# EAGLE library part LM833D (library ST Microelectronics)
Dual operational amplifier
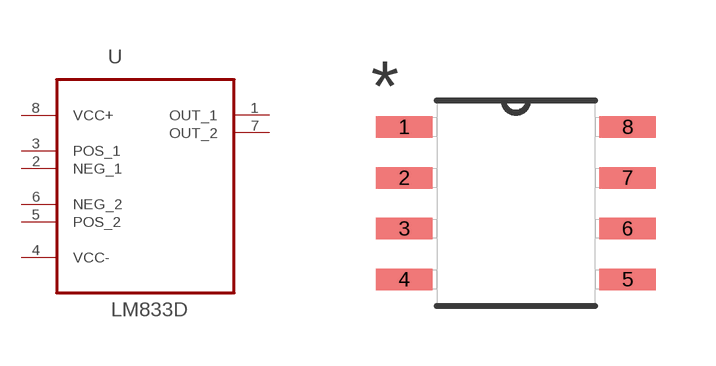
[diagram p123: symbol with the pads of SOIC127P600X175-8N; footprint SOIC127P600X175-8N]

Designator prefix U

## LM833D (MPN: LM833D; OC_FARNELL: 9756507; OC_NEWARK: 89K0717; PACKAGE: SOIC-8; SUPPLIER: STMICROELECTRONICS)  [SOIC127P600X175-8N]
1  OUT_1  out
2  NEG_1  in
3  POS_1  in
4  VCC-  pwr
5  POS_2  in
6  NEG_2  in
7  OUT_2  out
8  VCC+  pwr

## Footprint SOIC127P600X175-8N (pad centres in mm)
smd 1.422 x 0.533: 1 -2.794,1.905; 2 -2.794,0.635; 3 -2.794,-0.635; 4 -2.794,-1.905; 5 2.794,-1.905; 6 2.794,-0.635; 7 2.794,0.635; 8 2.794,1.905